# Altium schematic symbol library ICs.SchLib: 3 symbols
Pins are listed as number, name and electrical type; pins without a type are passive.

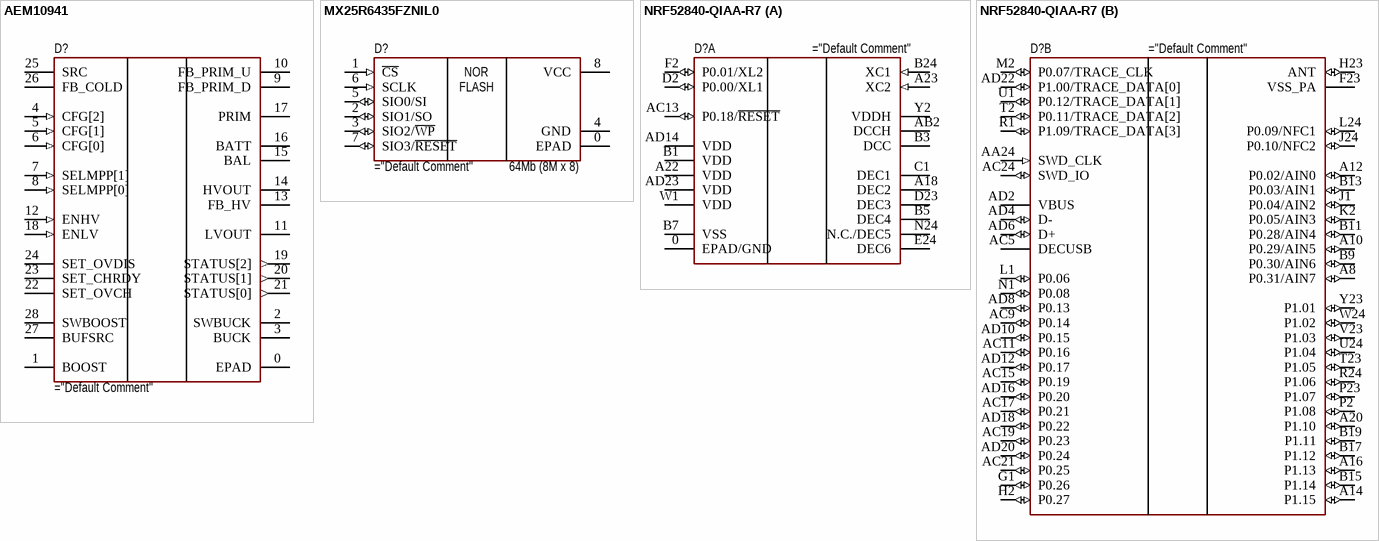
[diagram p0: symbols AEM10941 to NRF52840-QIAA-R7]

## AEM10941
designator D?
Power Management Specialised - PMIC AEM10941 IC - Photovoltaic Energy Harvesting Manager; Manufacturer: e-peas; Default Comment: AEM10941-QFN; Power Dissipation: * W; Rated Voltage: 1.2 to 4.5 V; Rated Current: Input: 110 mA, Output: 20 mA 80 mA; Tolerance: * %; Case: QFN-28; Operating Temperature: -40 °C to +125 °C; Type: IC; HelpURL: https://eu.mouser.com/ProductDetail/e-peas/AEM10941-QFN?qs=W%2FMpXkg%252BdQ7CeqB2lBPbRQ%3D%3D; Rated Power: * W; Value: *; Other: Power Management Specialised - PMIC AEM10941 IC - Photovoltaic Energy Harvesting Manager; Summary: ="Type"+" "+"Part Number"+" "+"Manufacturer"+" "+"Value"+" "+"Tolerance"+" "+"Operating Temperature"+" "+"Case"+" "+"Power Dissipation"+" "+"Rated Current"+" "+"Rated Power"+" "+"Rated Voltage"+" "+"Other"; Part Number: AEM10941-QFN; Assembly: *
footprint AEM10941-QFN28 (QFN, 28-Leads, Body 5,00x5,00mm, Pitch 0,50mm, Thermal Pad 3,15x3,15mm, IPC Medium Density)
pins: 0 EPAD "Ground connection, should be solidly tied to the PCB ground plane.", 1 BOOST "Output of the boost converter.", 2 SWBUCK "Switching node of the buck converter.", 3 BUCK (power) "Output of the buck converter.", 4 CFG[2] (in) "Used for the configuration of the threshold voltages for the  energy storage element and the output voltage of the LDOs.", 5 CFG[1] (in) "Used for the configuration of the threshold voltages for the  energy storage element and the output voltage of the LDOs.", 6 CFG[0] (in) "Used for the configuration of the threshold voltages for the  energy storage element and the output voltage of the LDOs.", 7 SELMPP[1] (in) "Used for the configuration of the MPP ratio.", 8 SELMPP[0] (in) "Used for the configuration of the MPP ratio.", 9 FB_PRIM_D "Used for the configuration of the primary battery (optional). Must be connected to GND if not used.", 10 FB_PRIM_U "Used for the configuration of the primary battery (optional). Must be connected to GND if not used.", 11 LVOUT (power) "Output of the low voltage LDO regulator.", 12 ENHV (in) "Enabling pin for the high-voltage LDO.", 13 FB_HV "Used for the configuration of the high-voltage LDO in the  custom mode (optional). Must be left floating if not used.", 14 HVOUT (power) "Output of the high voltage LDO regulator.", 15 BAL "Connection to mid-point of a dual-cell supercapacitor (optional).  Must be connected to GND if not used.", 16 BATT "Connection to the energy storage element, battery or capacitor.  Cannot be left floating.", 17 PRIM "Connection to the primary battery (optional).  Must be connected to GND if not used.", 18 ENLV (in) "Enabling pin for the low-voltage LDO.", 19 STATUS[2] (out) "Logic output. Asserted when the AEM performs a MPP evaluation.", 20 STATUS[1] (out) "Logic output. Asserted if the battery voltage falls below Vovdis or  if the AEM is taking energy from the primary battery.", 21 STATUS[0] (out) "Logic output. Asserted when the LDOs can be enabled.", 22 SET_OVCH "Used for the configuration of the threshold voltages for  the energy storage element in the custom mode (optional).  Must be left floating if not used.", 23 SET_CHRDY "Used for the configuration of the threshold voltages for  the energy storage element in the custom mode (optional).  Must be left floating if not used.", 24 SET_OVDIS "Used for the configuration of the threshold voltages for  the energy storage element in the custom mode (optional).  Must be left floating if not used.", 25 SRC "Connection to the harvested energy source.", 26 FB_COLD "Used for the configuration of the cold start (optional).  Must be connected to SRC if not used.", 27 BUFSRC "Connection to an external capacitor buffering the boost converter input.", 28 SWBOOST "Switching node of the boost converter."

## MX25R6435FZNIL0
designator D?  value 64Mb (8M x 8)
IC FLASH 64MBIT SPI/QUAD 8WSON; Manufacturer: Macronix; Default Comment: MX25R6435FZNIL0; Power Dissipation: * W; Rated Voltage: 1.65 to 3.6 V; Rated Current: * A; Tolerance: * %; Other: FLASH - NOR Memory IC 64Mb (8M x 8) SPI - Quad I/O 80 MHz 8-WSON (6x5); Case: 8-WSON (6x5); Operating Temperature: -40 °C to +85 °C; Type: IC; HelpURL: https://www.digikey.com/en/products/detail/macronix/MX25R6435FZNIL0/6558605?s=N4IgTCBcDaILIA0wFYBKA2ALAZmQMQC0A5ASQBkAGEAXQF8g; Rated Power: * W; Summary: ="Type"+" "+"Part Number"+" "+"Manufacturer"+" "+"Value"+" "+"Tolerance"+" "+"Operating Temperature"+" "+"Case"+" "+"Power Dissipation"+" "+"Rated Current"+" "+"Rated Power"+" "+"Rated Voltage"+" "+"Other"; Part Number: MX25R6435FZNIL0; Assembly: *
footprint MX25R6435FZNIL (WSON 8L 6x5x0.8mm 1.27mm pitch)
pins: 0 EPAD (power) "Exposed Ground Pad.", 1 ~{CS} (in) "Chip Select.", 2 SIO1/SO (io) "Serial Data Output (for 1 x I/O)/  Serial Data Input & Output (for 4xI/O  read mode)", 3 SIO2/~{WP} (io) "Write Protection Active Low or Serial  Data Input & Output (for 4xI/O read  mode)", 4 GND (power) "Ground", 5 SIO0/SI (io) "Serial Data Input (for 1 x I/O)/ Serial  Data Input & Output (for 4xI/O read  mode)", 6 SCLK (in) "Clock Input", 7 SIO3/~{RESET} (io) "Hardware Reset Pin Active low or  Serial Data Input & Output (for 4xI/O  read mode)", 8 VCC (power) "Power Supply."
text: NOR; FLASH

## NRF52840-QIAA-R7
designator D?
IC RF TXRX+MCU 802.15.4 73VFQFN; Manufacturer: Nordic Semiconductor ASA; Default Comment: NRF52840-QIAA-R7; Power Dissipation: * W; Rated Voltage: * V; Rated Current: * A; Tolerance: * %; Other: IC RF TxRx + MCU 802.15.4, Bluetooth Bluetooth v5.0, Thread, Zigbee® 2.4GHz 73-VFQFN Dual Rows, Exposed Pad; Case: 73-QFN (7x7); Operating Temperature: -40 °C to +85 °C; Type: IC; HelpURL: https://www.digikey.com/en/products/detail/nordic-semiconductor-asa/NRF52840-QIAA-R7/11200025; Rated Power: * W; Value: *; Summary: ="Type"+" "+"Part Number"+" "+"Manufacturer"+" "+"Value"+" "+"Tolerance"+" "+"Operating Temperature"+" "+"Case"+" "+"Power Dissipation"+" "+"Rated Current"+" "+"Rated Power"+" "+"Rated Voltage"+" "+"Other"; Part Number: NRF52840-QIAA-R7; Assembly: *
footprint nRF52840-QIAA (aQFN73 7x7 mm 73 ball 0.5 mm pitch 0.85mm height)
part A pins: 0 EPAD/GND "Ground pad.", A18 DEC2 (power) "1.3 V regulator supply decoupling.", A22 VDD (power) "Power supply.", A23 XC2 (in) "Connection for 32 MHz crystal.", AB2 DCCH (power) "DC/DC converter output.", AC13 P0.18/~{RESET} (io) "General purpose I/O. Configurable as pin RESET. QSPI/CSN.", AD14 VDD (power) "Power supply.", AD23 VDD (power) "Power supply.", B1 VDD (power) "Power supply.", B3 DCC (power) "DC/DC converter output.", B5 DEC4 (power) "1.3 V regulator supply decoupling.", B7 VSS "Ground.", B24 XC1 (in) "Connection for 32 MHz crystal.", C1 DEC1 (power) "1.1 V regulator supply decoupling.", D2 P0.00/XL1 (io) "General purpose I/O.  Connection for 32.768 kHz crystal.", D23 DEC3 (power) "Power supply, decoupling.", E24 DEC6 (power) "1.3 V regulator supply decoupling. Must be connected to DEC4 (pin  B5).", F2 P0.01/XL2 (io) "General purpose I/O. Connection for 32.768 kHz crystal.", N24 N.C./DEC5 (power) "1.3 V regulator supply decoupling for build codes  Dxx and earlier.  Not connected for build codes Fxx and later.", W1 VDD (power) "Power supply.", Y2 VDDH (power) "High voltage power supply."
part B pins: A8 P0.31/AIN7 (io) "General purpose I/O. Analog input.", A10 P0.29/AIN5 (io) "General purpose I/O. Analog input.", A12 P0.02/AIN0 (io) "General purpose I/O. Analog input.", A14 P1.15 (io) "General purpose I/O.", A16 P1.13 (io) "General purpose I/O.", A20 P1.10 (io) "General purpose I/O.", AA24 SWD_CLK (in) "Serial wire debug clock input for debug and  programming.", AC5 DECUSB (power) "USB 3.3 V regulator supply decoupling.", AC9 P0.14 (io) "General purpose I/O.", AC11 P0.16 (io) "General purpose I/O.", AC15 P0.19 (io) "General purpose I/O.", AC17 P0.21 (io) "General purpose I/O.", AC19 P0.23 (io) "General purpose I/O.", AC21 P0.25 (io) "General purpose I/O.", AC24 SWD_IO (io) "Serial wire debug I/O for debug and programming", AD2 VBUS (power) "5 V input for USB 3.3 V regulator.", AD4 D- (io) "USB D-.", AD6 D+ (io) "USB D+.", AD8 P0.13 (io) "General purpose I/O.", AD10 P0.15 (io) "General purpose I/O.", AD12 P0.17 (io) "General purpose I/O.", AD16 P0.20 (io) "General purpose I/O.", AD18 P0.22 (io) "General purpose I/O.", AD20 P0.24 (io) "General purpose I/O.", AD22 P1.00/TRACE_DATA[0] (io) "General purpose I/O. Trace buffer TRACEDATA[0]. Serial wire output (SWO).", B9 P0.30/AIN6 (io) "General purpose I/O. Analog input.", B11 P0.28/AIN4 (io) "General purpose I/O. Analog input.", B13 P0.03/AIN1 (io) "General purpose I/O. Analog input.", B15 P1.14 (io) "General purpose I/O.", B17 P1.12 (io) "General purpose I/O.", B19 P1.11 (io) "General purpose I/O.", F23 VSS_PA (power) "Ground (radio supply).", G1 P0.26 (io) "General purpose I/O.", H2 P0.27 (io) "General purpose I/O.", H23 ANT (io) "Single-ended radio antenna connection.", J1 P0.04/AIN2 (io) "General purpose I/O. Analog input.", J24 P0.10/NFC2 (io) "General purpose I/O. NFC antenna connection.", K2 P0.05/AIN3 (io) "General purpose I/O. Analog input.", L1 P0.06 (io) "General purpose I/O.", L24 P0.09/NFC1 (io) "General purpose I/O. NFC antenna connection.", M2 P0.07/TRACE_CLK (io) "General purpose I/O. Trace buffer clock.", N1 P0.08 (io) "General purpose I/O.", P2 P1.08 (io) "General purpose I/O.", P23 P1.07 (io) "General purpose I/O.", R1 P1.09/TRACE_DATA[3] (io) "General purpose I/O. Trace buffer TRACEDATA[3].", R24 P1.06 (io) "General purpose I/O.", T2 P0.11/TRACE_DATA[2] (io) "General purpose I/O. Trace buffer TRACEDATA[2].", T23 P1.05 (io) "General purpose I/O.", U1 P0.12/TRACE_DATA[1] (io) "General purpose I/O.  Trace buffer TRACEDATA[1].", U24 P1.04 (io) "General purpose I/O.", V23 P1.03 (io) "General purpose I/O.", W24 P1.02 (io) "General purpose I/O.", Y23 P1.01 (io) "General purpose I/O."